# EAGLE library part BUS (library libami)
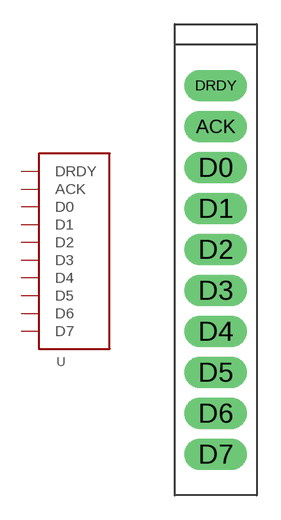
[diagram p1: symbol with the pads of BUS; footprint BUS]

Designator prefix -

## BUS  [BUS]
ACK  ACK
D0  D0
D1  D1
D2  D2
D3  D3
D4  D4
D5  D5
D6  D6
D7  D7
DRDY  DRDY

## Footprint BUS (pad centres in mm)
drill 1.3 long: ACK 0,8.89; D0 0,6.35; D1 0,3.81; D2 0,1.27; D3 0,-1.27; D4 0,-3.81; D5 0,-6.35; D6 0,-8.89; D7 0,-11.43; DRDY 0,11.43